# Altium footprint library 2045320501.PcbLib: 2 footprints
Each footprint in its own frame and in the unit in brackets; x right, y up, seen from the top. Pads: shape width x height; smd on the part's side, far side on the other; paste and mask are expansions set on the pad; w line width, h text height; cw(c..) or ccw(c..) is an arc to the next point about the centre after c.
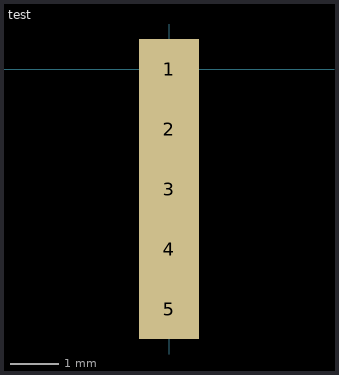
[diagram p0: the footprints below, top view; thin cyan lines are the x and y axes]

## 2045320501 [mm]
3D body "2045320501.stp": height 3.63, standoff -0.49, extent -6.625,1.1 1.625,7.2

## test [mm]
pads (5):
  rect 1.25x1.25 smd: 1(0,0) 2(0,-1.25) 3(0,-2.5) 4(0,-3.75) 5(0,-5)
3D body "2045320501.stp": height 5.91, standoff -0.19, extent -3.302,-6.647 0.818,1.603